# Altium integrated library ST Microcontroller 8-Bit.IntLib: 1326 symbols (part 38 of 45)
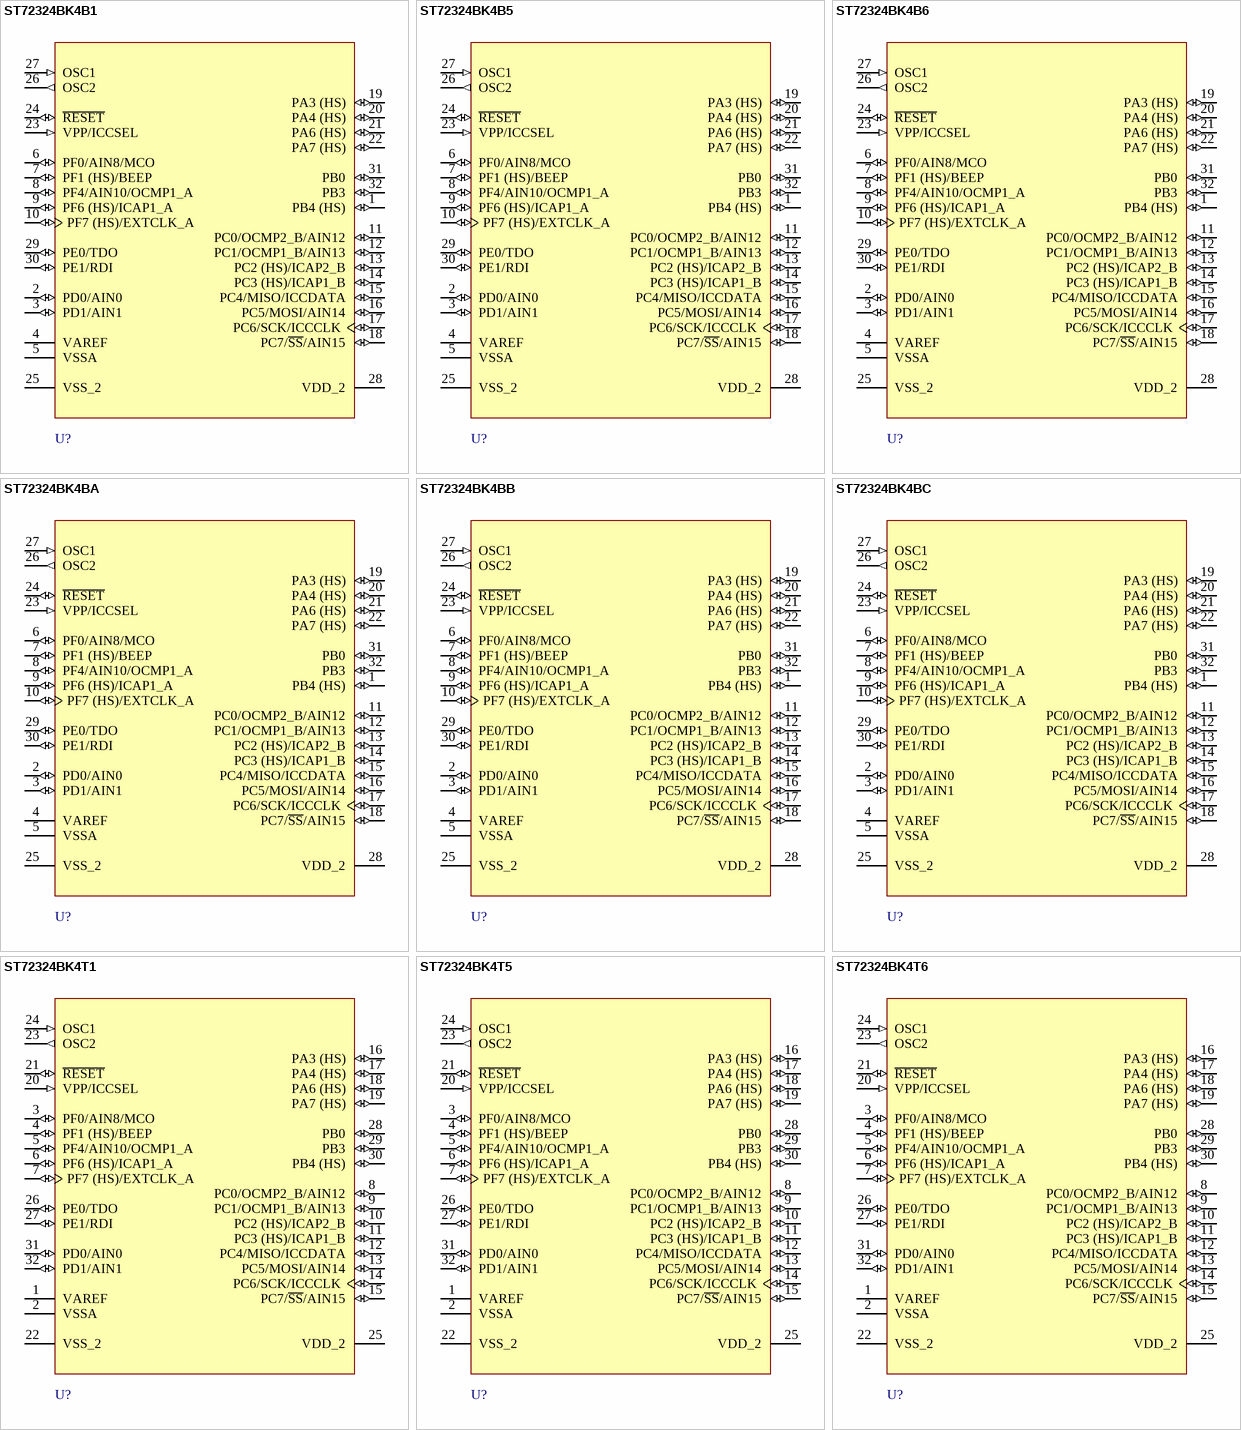
[diagram p204: symbols ST72324BK4B1 to ST72324BK4T6]

## ST72324BK4B6
designator U?
8-Bit MCU with 16k ROM, 512b RAM, 10-Bit ADC, Four Timers, SPI and SCI Interface, 32-Pin PDIP, Standard; Note: Pins 1, 6, 7, 19, 31 and 32 are External Interrupt (EI) pins.; Published: 26-May-2004; LatestRevisionDate: 06-Jun-2005; LatestRevisionNote: Stylized 3D Model Added.; DatasheetVersion: rev1.1, Oct-2003; PackageVersion: rev1.7, Oct-2001; PackageReference: PSDIP32; Publisher: Altium Limited; PackageDescription: DIP, Plastic Shrink; 32 Leads; Row Spacing 10.16 mm; Pitch 1.78 mm; ComponentLink1Description: Manufacturer Link; ComponentLink1URL: http://www.st.com/; ComponentLink2Description: Datasheet; ComponentLink2URL: http://www.st.com/stonline/products/literature/ds/8336/st72324b.pdf
footprint PSDIP32 (DIP, Plastic Shrink; 32 Leads; Row Spacing 10.16 mm; Pitch 1.78 mm)
3D model PSDIP32 (DIP, Plastic Shrink; 32 Leads; Row Spacing 10.16 mm; Pitch 1.78 mm)
pins: 1 PB4 (HS) (io), 2 PD0/AIN0 (io), 3 PD1/AIN1 (io), 4 VAREF (power), 5 VSSA (power), 6 PF0/AIN8/MCO (io), 7 PF1 (HS)/BEEP (io), 8 PF4/AIN10/OCMP1_A (io), 9 PF6 (HS)/ICAP1_A (io), 10 PF7 (HS)/EXTCLK_A (io), 11 PC0/OCMP2_B/AIN12 (io), 12 PC1/OCMP1_B/AIN13 (io), 13 PC2 (HS)/ICAP2_B (io), 14 PC3 (HS)/ICAP1_B (io), 15 PC4/MISO/ICCDATA (io), 16 PC5/MOSI/AIN14 (io), 17 PC6/SCK/ICCCLK (io), 18 PC7/~{SS}/AIN15 (io), 19 PA3 (HS) (io), 20 PA4 (HS) (io), 21 PA6 (HS) (io), 22 PA7 (HS) (io), 23 VPP/ICCSEL (in), 24 ~{RESET} (io), 25 VSS_2 (power), 26 OSC2 (out), 27 OSC1 (in), 28 VDD_2 (power), 29 PE0/TDO (io), 30 PE1/RDI (io), 31 PB0 (io), 32 PB3 (io)

## ST72324BK4BA
designator U?
8-Bit MCU with 16k ROM, 512b RAM, 10-Bit ADC, Four Timers, SPI and SCI Interface, 32-Pin PDIP, Automotive; Note: Pins 1, 6, 7, 19, 31 and 32 are External Interrupt (EI) pins.; Published: 26-May-2004; LatestRevisionDate: 06-Jun-2005; LatestRevisionNote: Stylized 3D Model Added.; DatasheetVersion: rev1.1, Oct-2003; PackageVersion: rev1.7, Oct-2001; PackageReference: PSDIP32; Publisher: Altium Limited; PackageDescription: DIP, Plastic Shrink; 32 Leads; Row Spacing 10.16 mm; Pitch 1.78 mm; ComponentLink1Description: Manufacturer Link; ComponentLink1URL: http://www.st.com/; ComponentLink2Description: Datasheet; ComponentLink2URL: http://www.st.com/stonline/products/literature/ds/8336/st72324b.pdf
footprint PSDIP32 (DIP, Plastic Shrink; 32 Leads; Row Spacing 10.16 mm; Pitch 1.78 mm)
3D model PSDIP32 (DIP, Plastic Shrink; 32 Leads; Row Spacing 10.16 mm; Pitch 1.78 mm)
pins: 1 PB4 (HS) (io), 2 PD0/AIN0 (io), 3 PD1/AIN1 (io), 4 VAREF (power), 5 VSSA (power), 6 PF0/AIN8/MCO (io), 7 PF1 (HS)/BEEP (io), 8 PF4/AIN10/OCMP1_A (io), 9 PF6 (HS)/ICAP1_A (io), 10 PF7 (HS)/EXTCLK_A (io), 11 PC0/OCMP2_B/AIN12 (io), 12 PC1/OCMP1_B/AIN13 (io), 13 PC2 (HS)/ICAP2_B (io), 14 PC3 (HS)/ICAP1_B (io), 15 PC4/MISO/ICCDATA (io), 16 PC5/MOSI/AIN14 (io), 17 PC6/SCK/ICCCLK (io), 18 PC7/~{SS}/AIN15 (io), 19 PA3 (HS) (io), 20 PA4 (HS) (io), 21 PA6 (HS) (io), 22 PA7 (HS) (io), 23 VPP/ICCSEL (in), 24 ~{RESET} (io), 25 VSS_2 (power), 26 OSC2 (out), 27 OSC1 (in), 28 VDD_2 (power), 29 PE0/TDO (io), 30 PE1/RDI (io), 31 PB0 (io), 32 PB3 (io)

## ST72324BK4BB
designator U?
8-Bit MCU with 16k ROM, 512b RAM, 10-Bit ADC, Four Timers, SPI and SCI Interface, 32-Pin PDIP, Automotive; Note: Pins 1, 6, 7, 19, 31 and 32 are External Interrupt (EI) pins.; Published: 26-May-2004; LatestRevisionDate: 06-Jun-2005; LatestRevisionNote: Stylized 3D Model Added.; DatasheetVersion: rev1.1, Oct-2003; PackageVersion: rev1.7, Oct-2001; PackageReference: PSDIP32; Publisher: Altium Limited; PackageDescription: DIP, Plastic Shrink; 32 Leads; Row Spacing 10.16 mm; Pitch 1.78 mm; ComponentLink1Description: Manufacturer Link; ComponentLink1URL: http://www.st.com/; ComponentLink2Description: Datasheet; ComponentLink2URL: http://www.st.com/stonline/products/literature/ds/8336/st72324b.pdf
footprint PSDIP32 (DIP, Plastic Shrink; 32 Leads; Row Spacing 10.16 mm; Pitch 1.78 mm)
3D model PSDIP32 (DIP, Plastic Shrink; 32 Leads; Row Spacing 10.16 mm; Pitch 1.78 mm)
pins: 1 PB4 (HS) (io), 2 PD0/AIN0 (io), 3 PD1/AIN1 (io), 4 VAREF (power), 5 VSSA (power), 6 PF0/AIN8/MCO (io), 7 PF1 (HS)/BEEP (io), 8 PF4/AIN10/OCMP1_A (io), 9 PF6 (HS)/ICAP1_A (io), 10 PF7 (HS)/EXTCLK_A (io), 11 PC0/OCMP2_B/AIN12 (io), 12 PC1/OCMP1_B/AIN13 (io), 13 PC2 (HS)/ICAP2_B (io), 14 PC3 (HS)/ICAP1_B (io), 15 PC4/MISO/ICCDATA (io), 16 PC5/MOSI/AIN14 (io), 17 PC6/SCK/ICCCLK (io), 18 PC7/~{SS}/AIN15 (io), 19 PA3 (HS) (io), 20 PA4 (HS) (io), 21 PA6 (HS) (io), 22 PA7 (HS) (io), 23 VPP/ICCSEL (in), 24 ~{RESET} (io), 25 VSS_2 (power), 26 OSC2 (out), 27 OSC1 (in), 28 VDD_2 (power), 29 PE0/TDO (io), 30 PE1/RDI (io), 31 PB0 (io), 32 PB3 (io)

## ST72324BK4BC
designator U?
8-Bit MCU with 16k ROM, 512b RAM, 10-Bit ADC, Four Timers, SPI and SCI Interface, 32-Pin PDIP, Automotive; Note: Pins 1, 6, 7, 19, 31 and 32 are External Interrupt (EI) pins.; Published: 26-May-2004; LatestRevisionDate: 06-Jun-2005; LatestRevisionNote: Stylized 3D Model Added.; DatasheetVersion: rev1.1, Oct-2003; PackageVersion: rev1.7, Oct-2001; PackageReference: PSDIP32; Publisher: Altium Limited; PackageDescription: DIP, Plastic Shrink; 32 Leads; Row Spacing 10.16 mm; Pitch 1.78 mm; ComponentLink1Description: Manufacturer Link; ComponentLink1URL: http://www.st.com/; ComponentLink2Description: Datasheet; ComponentLink2URL: http://www.st.com/stonline/products/literature/ds/8336/st72324b.pdf
footprint PSDIP32 (DIP, Plastic Shrink; 32 Leads; Row Spacing 10.16 mm; Pitch 1.78 mm)
3D model PSDIP32 (DIP, Plastic Shrink; 32 Leads; Row Spacing 10.16 mm; Pitch 1.78 mm)
pins: 1 PB4 (HS) (io), 2 PD0/AIN0 (io), 3 PD1/AIN1 (io), 4 VAREF (power), 5 VSSA (power), 6 PF0/AIN8/MCO (io), 7 PF1 (HS)/BEEP (io), 8 PF4/AIN10/OCMP1_A (io), 9 PF6 (HS)/ICAP1_A (io), 10 PF7 (HS)/EXTCLK_A (io), 11 PC0/OCMP2_B/AIN12 (io), 12 PC1/OCMP1_B/AIN13 (io), 13 PC2 (HS)/ICAP2_B (io), 14 PC3 (HS)/ICAP1_B (io), 15 PC4/MISO/ICCDATA (io), 16 PC5/MOSI/AIN14 (io), 17 PC6/SCK/ICCCLK (io), 18 PC7/~{SS}/AIN15 (io), 19 PA3 (HS) (io), 20 PA4 (HS) (io), 21 PA6 (HS) (io), 22 PA7 (HS) (io), 23 VPP/ICCSEL (in), 24 ~{RESET} (io), 25 VSS_2 (power), 26 OSC2 (out), 27 OSC1 (in), 28 VDD_2 (power), 29 PE0/TDO (io), 30 PE1/RDI (io), 31 PB0 (io), 32 PB3 (io)

## ST72324BK4T1
designator U?
8-Bit MCU with 16k ROM, 512b RAM, 10-Bit ADC, Four Timers, SPI and SCI Interface, 32-Pin TQFP, Standard; Note: Pins 3, 4, 16 and 28-30 are External Interrupt (EI) pins.; Published: 26-May-2004; LatestRevisionDate: 13-Apr-2006; LatestRevisionNote: IPC-7351 Footprint Added.; DatasheetVersion: rev1.1, Oct-2003; PackageVersion: Oct-1997; PackageReference: TQFP32; Publisher: Altium Limited; PackageDescription: 32-Pin Thin Quad Flat Pack 0.8 mm Pitch; ComponentLink1Description: Manufacturer Link; ComponentLink1URL: http://www.st.com/; ComponentLink2Description: Datasheet; ComponentLink2URL: http://www.st.com/stonline/products/literature/ds/8336/st72324b.pdf
footprint TQFP32_N (Thin QFP, 32-Leads, Body 7x7mm, Pitch 0.8mm, IPC Medium Density)
footprint TQFP32_L (Thin QFP, 32-Leads, Body 7x7mm, Pitch 0.8mm, IPC High Density)
footprint TQFP32_M (Thin QFP, 32-Leads, Body 7x7mm, Pitch 0.8mm, IPC Low Density)
3D model ST72324B-TQFP32 (32-Pin Thin Quad Flat Pack 0.8 mm Pitch)
pins: 1 VAREF (power), 2 VSSA (power), 3 PF0/AIN8/MCO (io), 4 PF1 (HS)/BEEP (io), 5 PF4/AIN10/OCMP1_A (io), 6 PF6 (HS)/ICAP1_A (io), 7 PF7 (HS)/EXTCLK_A (io), 8 PC0/OCMP2_B/AIN12 (io), 9 PC1/OCMP1_B/AIN13 (io), 10 PC2 (HS)/ICAP2_B (io), 11 PC3 (HS)/ICAP1_B (io), 12 PC4/MISO/ICCDATA (io), 13 PC5/MOSI/AIN14 (io), 14 PC6/SCK/ICCCLK (io), 15 PC7/~{SS}/AIN15 (io), 16 PA3 (HS) (io), 17 PA4 (HS) (io), 18 PA6 (HS) (io), 19 PA7 (HS) (io), 20 VPP/ICCSEL (in), 21 ~{RESET} (io), 22 VSS_2 (power), 23 OSC2 (out), 24 OSC1 (in), 25 VDD_2 (power), 26 PE0/TDO (io), 27 PE1/RDI (io), 28 PB0 (io), 29 PB3 (io), 30 PB4 (HS) (io), 31 PD0/AIN0 (io), 32 PD1/AIN1 (io)

## ST72324BK4T5
designator U?
8-Bit MCU with 16k ROM, 512b RAM, 10-Bit ADC, Four Timers, SPI and SCI Interface, 32-Pin TQFP, Standard; Note: Pins 3, 4, 16 and 28-30 are External Interrupt (EI) pins.; Published: 26-May-2004; LatestRevisionDate: 13-Apr-2006; LatestRevisionNote: IPC-7351 Footprint Added.; DatasheetVersion: rev1.1, Oct-2003; PackageVersion: Oct-1997; PackageReference: TQFP32; Publisher: Altium Limited; PackageDescription: 32-Pin Thin Quad Flat Pack 0.8 mm Pitch; ComponentLink1Description: Manufacturer Link; ComponentLink1URL: http://www.st.com/; ComponentLink2Description: Datasheet; ComponentLink2URL: http://www.st.com/stonline/products/literature/ds/8336/st72324b.pdf
footprint TQFP32_N (Thin QFP, 32-Leads, Body 7x7mm, Pitch 0.8mm, IPC Medium Density)
footprint TQFP32_L (Thin QFP, 32-Leads, Body 7x7mm, Pitch 0.8mm, IPC High Density)
footprint TQFP32_M (Thin QFP, 32-Leads, Body 7x7mm, Pitch 0.8mm, IPC Low Density)
3D model ST72324B-TQFP32 (32-Pin Thin Quad Flat Pack 0.8 mm Pitch)
pins: 1 VAREF (power), 2 VSSA (power), 3 PF0/AIN8/MCO (io), 4 PF1 (HS)/BEEP (io), 5 PF4/AIN10/OCMP1_A (io), 6 PF6 (HS)/ICAP1_A (io), 7 PF7 (HS)/EXTCLK_A (io), 8 PC0/OCMP2_B/AIN12 (io), 9 PC1/OCMP1_B/AIN13 (io), 10 PC2 (HS)/ICAP2_B (io), 11 PC3 (HS)/ICAP1_B (io), 12 PC4/MISO/ICCDATA (io), 13 PC5/MOSI/AIN14 (io), 14 PC6/SCK/ICCCLK (io), 15 PC7/~{SS}/AIN15 (io), 16 PA3 (HS) (io), 17 PA4 (HS) (io), 18 PA6 (HS) (io), 19 PA7 (HS) (io), 20 VPP/ICCSEL (in), 21 ~{RESET} (io), 22 VSS_2 (power), 23 OSC2 (out), 24 OSC1 (in), 25 VDD_2 (power), 26 PE0/TDO (io), 27 PE1/RDI (io), 28 PB0 (io), 29 PB3 (io), 30 PB4 (HS) (io), 31 PD0/AIN0 (io), 32 PD1/AIN1 (io)

## ST72324BK4T6
designator U?
8-Bit MCU with 16k ROM, 512b RAM, 10-Bit ADC, Four Timers, SPI and SCI Interface, 32-Pin TQFP, Standard; Note: Pins 3, 4, 16 and 28-30 are External Interrupt (EI) pins.; Published: 26-May-2004; LatestRevisionDate: 13-Apr-2006; LatestRevisionNote: IPC-7351 Footprint Added.; DatasheetVersion: rev1.1, Oct-2003; PackageVersion: Oct-1997; PackageReference: TQFP32; Publisher: Altium Limited; PackageDescription: 32-Pin Thin Quad Flat Pack 0.8 mm Pitch; ComponentLink1Description: Manufacturer Link; ComponentLink1URL: http://www.st.com/; ComponentLink2Description: Datasheet; ComponentLink2URL: http://www.st.com/stonline/products/literature/ds/8336/st72324b.pdf
footprint TQFP32_N (Thin QFP, 32-Leads, Body 7x7mm, Pitch 0.8mm, IPC Medium Density)
footprint TQFP32_L (Thin QFP, 32-Leads, Body 7x7mm, Pitch 0.8mm, IPC High Density)
footprint TQFP32_M (Thin QFP, 32-Leads, Body 7x7mm, Pitch 0.8mm, IPC Low Density)
3D model ST72324B-TQFP32 (32-Pin Thin Quad Flat Pack 0.8 mm Pitch)
pins: 1 VAREF (power), 2 VSSA (power), 3 PF0/AIN8/MCO (io), 4 PF1 (HS)/BEEP (io), 5 PF4/AIN10/OCMP1_A (io), 6 PF6 (HS)/ICAP1_A (io), 7 PF7 (HS)/EXTCLK_A (io), 8 PC0/OCMP2_B/AIN12 (io), 9 PC1/OCMP1_B/AIN13 (io), 10 PC2 (HS)/ICAP2_B (io), 11 PC3 (HS)/ICAP1_B (io), 12 PC4/MISO/ICCDATA (io), 13 PC5/MOSI/AIN14 (io), 14 PC6/SCK/ICCCLK (io), 15 PC7/~{SS}/AIN15 (io), 16 PA3 (HS) (io), 17 PA4 (HS) (io), 18 PA6 (HS) (io), 19 PA7 (HS) (io), 20 VPP/ICCSEL (in), 21 ~{RESET} (io), 22 VSS_2 (power), 23 OSC2 (out), 24 OSC1 (in), 25 VDD_2 (power), 26 PE0/TDO (io), 27 PE1/RDI (io), 28 PB0 (io), 29 PB3 (io), 30 PB4 (HS) (io), 31 PD0/AIN0 (io), 32 PD1/AIN1 (io)

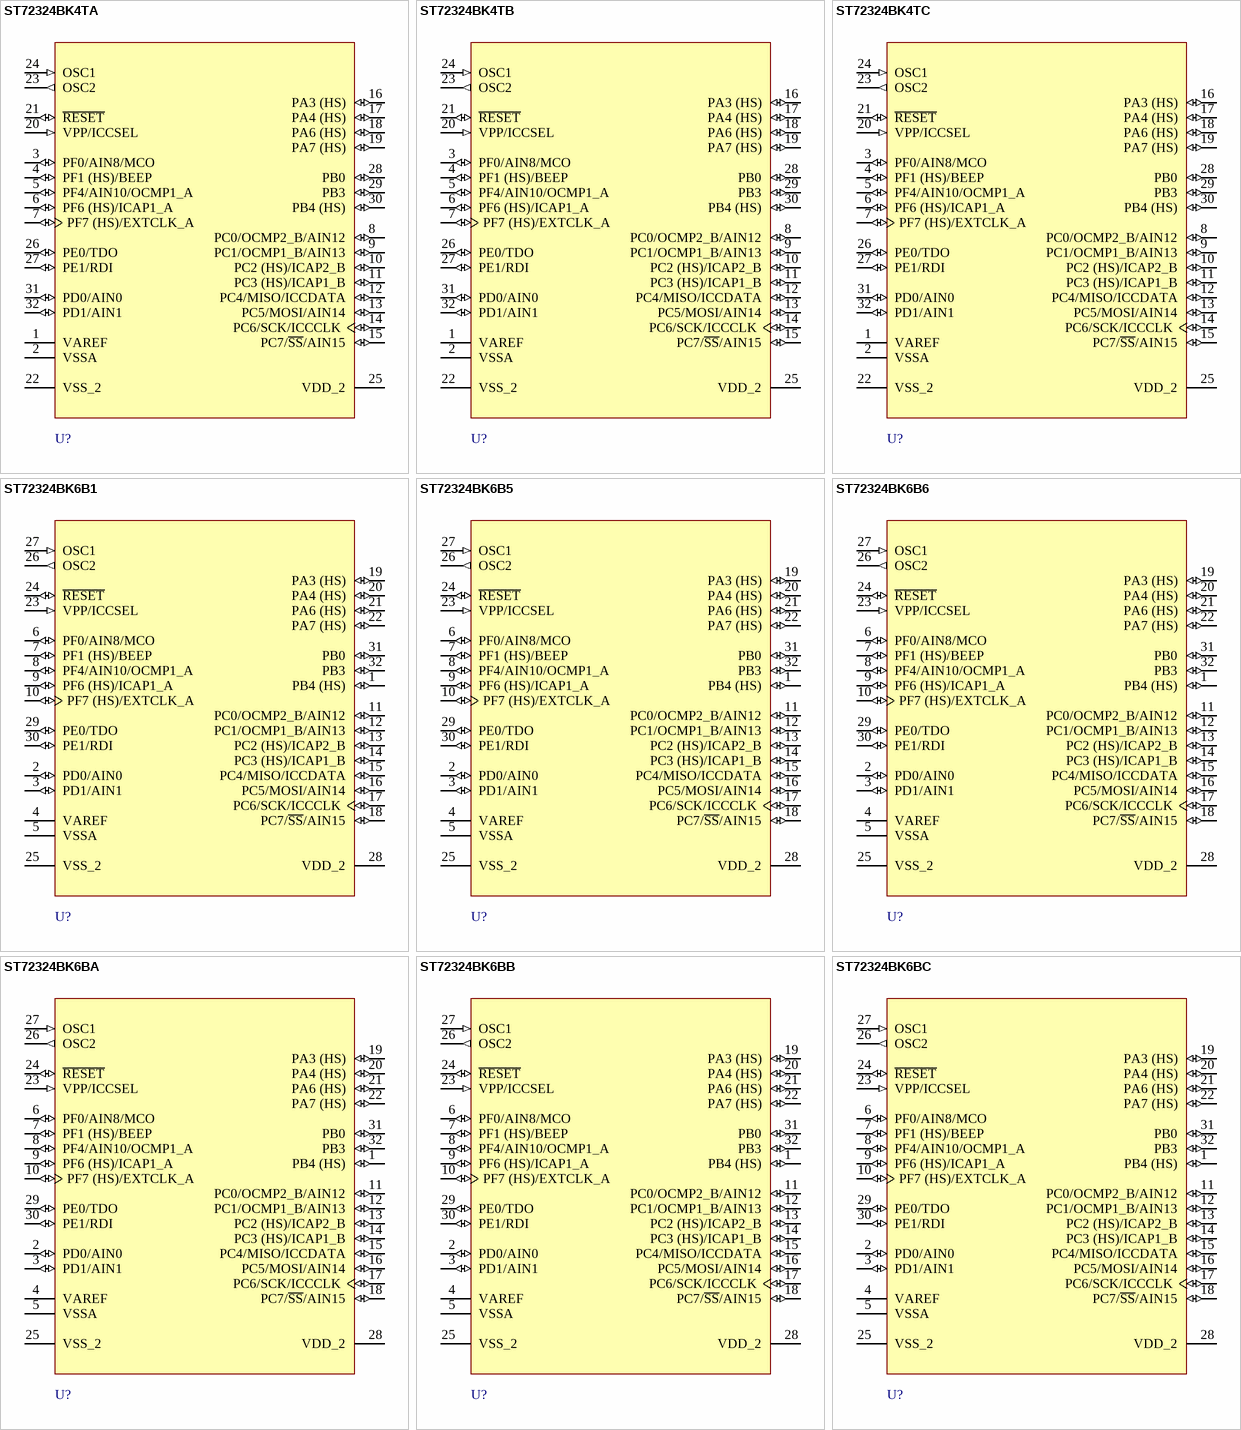
[diagram p134: symbols ST72324BK4TA to ST72324BK6BC]

## ST72324BK4TA
designator U?
8-Bit MCU with 16k ROM, 512b RAM, 10-Bit ADC, Four Timers, SPI and SCI Interface, 32-Pin TQFP, Automotive; Note: Pins 3, 4, 16 and 28-30 are External Interrupt (EI) pins.; Published: 26-May-2004; LatestRevisionDate: 13-Apr-2006; LatestRevisionNote: IPC-7351 Footprint Added.; DatasheetVersion: rev1.1, Oct-2003; PackageVersion: Oct-1997; PackageReference: TQFP32; Publisher: Altium Limited; PackageDescription: 32-Pin Thin Quad Flat Pack 0.8 mm Pitch; ComponentLink1Description: Manufacturer Link; ComponentLink1URL: http://www.st.com/; ComponentLink2Description: Datasheet; ComponentLink2URL: http://www.st.com/stonline/products/literature/ds/8336/st72324b.pdf
footprint TQFP32_N (Thin QFP, 32-Leads, Body 7x7mm, Pitch 0.8mm, IPC Medium Density)
footprint TQFP32_L (Thin QFP, 32-Leads, Body 7x7mm, Pitch 0.8mm, IPC High Density)
footprint TQFP32_M (Thin QFP, 32-Leads, Body 7x7mm, Pitch 0.8mm, IPC Low Density)
3D model ST72324B-TQFP32 (32-Pin Thin Quad Flat Pack 0.8 mm Pitch)
pins: 1 VAREF (power), 2 VSSA (power), 3 PF0/AIN8/MCO (io), 4 PF1 (HS)/BEEP (io), 5 PF4/AIN10/OCMP1_A (io), 6 PF6 (HS)/ICAP1_A (io), 7 PF7 (HS)/EXTCLK_A (io), 8 PC0/OCMP2_B/AIN12 (io), 9 PC1/OCMP1_B/AIN13 (io), 10 PC2 (HS)/ICAP2_B (io), 11 PC3 (HS)/ICAP1_B (io), 12 PC4/MISO/ICCDATA (io), 13 PC5/MOSI/AIN14 (io), 14 PC6/SCK/ICCCLK (io), 15 PC7/~{SS}/AIN15 (io), 16 PA3 (HS) (io), 17 PA4 (HS) (io), 18 PA6 (HS) (io), 19 PA7 (HS) (io), 20 VPP/ICCSEL (in), 21 ~{RESET} (io), 22 VSS_2 (power), 23 OSC2 (out), 24 OSC1 (in), 25 VDD_2 (power), 26 PE0/TDO (io), 27 PE1/RDI (io), 28 PB0 (io), 29 PB3 (io), 30 PB4 (HS) (io), 31 PD0/AIN0 (io), 32 PD1/AIN1 (io)

## ST72324BK4TB
designator U?
8-Bit MCU with 16k ROM, 512b RAM, 10-Bit ADC, Four Timers, SPI and SCI Interface, 32-Pin TQFP, Automotive; Note: Pins 3, 4, 16 and 28-30 are External Interrupt (EI) pins.; Published: 26-May-2004; LatestRevisionDate: 13-Apr-2006; LatestRevisionNote: IPC-7351 Footprint Added.; DatasheetVersion: rev1.1, Oct-2003; PackageVersion: Oct-1997; PackageReference: TQFP32; Publisher: Altium Limited; PackageDescription: 32-Pin Thin Quad Flat Pack 0.8 mm Pitch; ComponentLink1Description: Manufacturer Link; ComponentLink1URL: http://www.st.com/; ComponentLink2Description: Datasheet; ComponentLink2URL: http://www.st.com/stonline/products/literature/ds/8336/st72324b.pdf
footprint TQFP32_N (Thin QFP, 32-Leads, Body 7x7mm, Pitch 0.8mm, IPC Medium Density)
footprint TQFP32_L (Thin QFP, 32-Leads, Body 7x7mm, Pitch 0.8mm, IPC High Density)
footprint TQFP32_M (Thin QFP, 32-Leads, Body 7x7mm, Pitch 0.8mm, IPC Low Density)
3D model ST72324B-TQFP32 (32-Pin Thin Quad Flat Pack 0.8 mm Pitch)
pins: 1 VAREF (power), 2 VSSA (power), 3 PF0/AIN8/MCO (io), 4 PF1 (HS)/BEEP (io), 5 PF4/AIN10/OCMP1_A (io), 6 PF6 (HS)/ICAP1_A (io), 7 PF7 (HS)/EXTCLK_A (io), 8 PC0/OCMP2_B/AIN12 (io), 9 PC1/OCMP1_B/AIN13 (io), 10 PC2 (HS)/ICAP2_B (io), 11 PC3 (HS)/ICAP1_B (io), 12 PC4/MISO/ICCDATA (io), 13 PC5/MOSI/AIN14 (io), 14 PC6/SCK/ICCCLK (io), 15 PC7/~{SS}/AIN15 (io), 16 PA3 (HS) (io), 17 PA4 (HS) (io), 18 PA6 (HS) (io), 19 PA7 (HS) (io), 20 VPP/ICCSEL (in), 21 ~{RESET} (io), 22 VSS_2 (power), 23 OSC2 (out), 24 OSC1 (in), 25 VDD_2 (power), 26 PE0/TDO (io), 27 PE1/RDI (io), 28 PB0 (io), 29 PB3 (io), 30 PB4 (HS) (io), 31 PD0/AIN0 (io), 32 PD1/AIN1 (io)

## ST72324BK4TC
designator U?
8-Bit MCU with 16k ROM, 512b RAM, 10-Bit ADC, Four Timers, SPI and SCI Interface, 32-Pin TQFP, Automotive; Note: Pins 3, 4, 16 and 28-30 are External Interrupt (EI) pins.; Published: 26-May-2004; LatestRevisionDate: 13-Apr-2006; LatestRevisionNote: IPC-7351 Footprint Added.; DatasheetVersion: rev1.1, Oct-2003; PackageVersion: Oct-1997; PackageReference: TQFP32; Publisher: Altium Limited; PackageDescription: 32-Pin Thin Quad Flat Pack 0.8 mm Pitch; ComponentLink1Description: Manufacturer Link; ComponentLink1URL: http://www.st.com/; ComponentLink2Description: Datasheet; ComponentLink2URL: http://www.st.com/stonline/products/literature/ds/8336/st72324b.pdf
footprint TQFP32_N (Thin QFP, 32-Leads, Body 7x7mm, Pitch 0.8mm, IPC Medium Density)
footprint TQFP32_L (Thin QFP, 32-Leads, Body 7x7mm, Pitch 0.8mm, IPC High Density)
footprint TQFP32_M (Thin QFP, 32-Leads, Body 7x7mm, Pitch 0.8mm, IPC Low Density)
3D model ST72324B-TQFP32 (32-Pin Thin Quad Flat Pack 0.8 mm Pitch)
pins: 1 VAREF (power), 2 VSSA (power), 3 PF0/AIN8/MCO (io), 4 PF1 (HS)/BEEP (io), 5 PF4/AIN10/OCMP1_A (io), 6 PF6 (HS)/ICAP1_A (io), 7 PF7 (HS)/EXTCLK_A (io), 8 PC0/OCMP2_B/AIN12 (io), 9 PC1/OCMP1_B/AIN13 (io), 10 PC2 (HS)/ICAP2_B (io), 11 PC3 (HS)/ICAP1_B (io), 12 PC4/MISO/ICCDATA (io), 13 PC5/MOSI/AIN14 (io), 14 PC6/SCK/ICCCLK (io), 15 PC7/~{SS}/AIN15 (io), 16 PA3 (HS) (io), 17 PA4 (HS) (io), 18 PA6 (HS) (io), 19 PA7 (HS) (io), 20 VPP/ICCSEL (in), 21 ~{RESET} (io), 22 VSS_2 (power), 23 OSC2 (out), 24 OSC1 (in), 25 VDD_2 (power), 26 PE0/TDO (io), 27 PE1/RDI (io), 28 PB0 (io), 29 PB3 (io), 30 PB4 (HS) (io), 31 PD0/AIN0 (io), 32 PD1/AIN1 (io)

## ST72324BK6B1
designator U?
8-Bit MCU with 32k ROM, 1024b RAM, 10-Bit ADC, Four Timers, SPI and SCI Interface, 32-Pin PDIP, Standard; Note: Pins 1, 6, 7, 19, 31 and 32 are External Interrupt (EI) pins.; Published: 26-May-2004; LatestRevisionDate: 06-Jun-2005; LatestRevisionNote: Stylized 3D Model Added.; DatasheetVersion: rev1.1, Oct-2003; PackageVersion: rev1.7, Oct-2001; PackageReference: PSDIP32; Publisher: Altium Limited; PackageDescription: DIP, Plastic Shrink; 32 Leads; Row Spacing 10.16 mm; Pitch 1.78 mm; ComponentLink1Description: Manufacturer Link; ComponentLink1URL: http://www.st.com/; ComponentLink2Description: Datasheet; ComponentLink2URL: http://www.st.com/stonline/products/literature/ds/8336/st72324b.pdf
footprint PSDIP32 (DIP, Plastic Shrink; 32 Leads; Row Spacing 10.16 mm; Pitch 1.78 mm)
3D model PSDIP32 (DIP, Plastic Shrink; 32 Leads; Row Spacing 10.16 mm; Pitch 1.78 mm)
pins: 1 PB4 (HS) (io), 2 PD0/AIN0 (io), 3 PD1/AIN1 (io), 4 VAREF (power), 5 VSSA (power), 6 PF0/AIN8/MCO (io), 7 PF1 (HS)/BEEP (io), 8 PF4/AIN10/OCMP1_A (io), 9 PF6 (HS)/ICAP1_A (io), 10 PF7 (HS)/EXTCLK_A (io), 11 PC0/OCMP2_B/AIN12 (io), 12 PC1/OCMP1_B/AIN13 (io), 13 PC2 (HS)/ICAP2_B (io), 14 PC3 (HS)/ICAP1_B (io), 15 PC4/MISO/ICCDATA (io), 16 PC5/MOSI/AIN14 (io), 17 PC6/SCK/ICCCLK (io), 18 PC7/~{SS}/AIN15 (io), 19 PA3 (HS) (io), 20 PA4 (HS) (io), 21 PA6 (HS) (io), 22 PA7 (HS) (io), 23 VPP/ICCSEL (in), 24 ~{RESET} (io), 25 VSS_2 (power), 26 OSC2 (out), 27 OSC1 (in), 28 VDD_2 (power), 29 PE0/TDO (io), 30 PE1/RDI (io), 31 PB0 (io), 32 PB3 (io)

## ST72324BK6B5
designator U?
8-Bit MCU with 32k ROM, 1024b RAM, 10-Bit ADC, Four Timers, SPI and SCI Interface, 32-Pin PDIP, Standard; Note: Pins 1, 6, 7, 19, 31 and 32 are External Interrupt (EI) pins.; Published: 26-May-2004; LatestRevisionDate: 06-Jun-2005; LatestRevisionNote: Stylized 3D Model Added.; DatasheetVersion: rev1.1, Oct-2003; PackageVersion: rev1.7, Oct-2001; PackageReference: PSDIP32; Publisher: Altium Limited; PackageDescription: DIP, Plastic Shrink; 32 Leads; Row Spacing 10.16 mm; Pitch 1.78 mm; ComponentLink1Description: Manufacturer Link; ComponentLink1URL: http://www.st.com/; ComponentLink2Description: Datasheet; ComponentLink2URL: http://www.st.com/stonline/products/literature/ds/8336/st72324b.pdf
footprint PSDIP32 (DIP, Plastic Shrink; 32 Leads; Row Spacing 10.16 mm; Pitch 1.78 mm)
3D model PSDIP32 (DIP, Plastic Shrink; 32 Leads; Row Spacing 10.16 mm; Pitch 1.78 mm)
pins: 1 PB4 (HS) (io), 2 PD0/AIN0 (io), 3 PD1/AIN1 (io), 4 VAREF (power), 5 VSSA (power), 6 PF0/AIN8/MCO (io), 7 PF1 (HS)/BEEP (io), 8 PF4/AIN10/OCMP1_A (io), 9 PF6 (HS)/ICAP1_A (io), 10 PF7 (HS)/EXTCLK_A (io), 11 PC0/OCMP2_B/AIN12 (io), 12 PC1/OCMP1_B/AIN13 (io), 13 PC2 (HS)/ICAP2_B (io), 14 PC3 (HS)/ICAP1_B (io), 15 PC4/MISO/ICCDATA (io), 16 PC5/MOSI/AIN14 (io), 17 PC6/SCK/ICCCLK (io), 18 PC7/~{SS}/AIN15 (io), 19 PA3 (HS) (io), 20 PA4 (HS) (io), 21 PA6 (HS) (io), 22 PA7 (HS) (io), 23 VPP/ICCSEL (in), 24 ~{RESET} (io), 25 VSS_2 (power), 26 OSC2 (out), 27 OSC1 (in), 28 VDD_2 (power), 29 PE0/TDO (io), 30 PE1/RDI (io), 31 PB0 (io), 32 PB3 (io)

## ST72324BK6B6
designator U?
8-Bit MCU with 32k ROM, 1024b RAM, 10-Bit ADC, Four Timers, SPI and SCI Interface, 32-Pin PDIP, Standard; Note: Pins 1, 6, 7, 19, 31 and 32 are External Interrupt (EI) pins.; Published: 26-May-2004; LatestRevisionDate: 06-Jun-2005; LatestRevisionNote: Stylized 3D Model Added.; DatasheetVersion: rev1.1, Oct-2003; PackageVersion: rev1.7, Oct-2001; PackageReference: PSDIP32; Publisher: Altium Limited; PackageDescription: DIP, Plastic Shrink; 32 Leads; Row Spacing 10.16 mm; Pitch 1.78 mm; ComponentLink1Description: Manufacturer Link; ComponentLink1URL: http://www.st.com/; ComponentLink2Description: Datasheet; ComponentLink2URL: http://www.st.com/stonline/products/literature/ds/8336/st72324b.pdf
footprint PSDIP32 (DIP, Plastic Shrink; 32 Leads; Row Spacing 10.16 mm; Pitch 1.78 mm)
3D model PSDIP32 (DIP, Plastic Shrink; 32 Leads; Row Spacing 10.16 mm; Pitch 1.78 mm)
pins: 1 PB4 (HS) (io), 2 PD0/AIN0 (io), 3 PD1/AIN1 (io), 4 VAREF (power), 5 VSSA (power), 6 PF0/AIN8/MCO (io), 7 PF1 (HS)/BEEP (io), 8 PF4/AIN10/OCMP1_A (io), 9 PF6 (HS)/ICAP1_A (io), 10 PF7 (HS)/EXTCLK_A (io), 11 PC0/OCMP2_B/AIN12 (io), 12 PC1/OCMP1_B/AIN13 (io), 13 PC2 (HS)/ICAP2_B (io), 14 PC3 (HS)/ICAP1_B (io), 15 PC4/MISO/ICCDATA (io), 16 PC5/MOSI/AIN14 (io), 17 PC6/SCK/ICCCLK (io), 18 PC7/~{SS}/AIN15 (io), 19 PA3 (HS) (io), 20 PA4 (HS) (io), 21 PA6 (HS) (io), 22 PA7 (HS) (io), 23 VPP/ICCSEL (in), 24 ~{RESET} (io), 25 VSS_2 (power), 26 OSC2 (out), 27 OSC1 (in), 28 VDD_2 (power), 29 PE0/TDO (io), 30 PE1/RDI (io), 31 PB0 (io), 32 PB3 (io)

## ST72324BK6BA
designator U?
8-Bit MCU with 32k ROM, 1024b RAM, 10-Bit ADC, Four Timers, SPI and SCI Interface, 32-Pin PDIP, Automotive; Note: Pins 1, 6, 7, 19, 31 and 32 are External Interrupt (EI) pins.; Published: 26-May-2004; LatestRevisionDate: 06-Jun-2005; LatestRevisionNote: Stylized 3D Model Added.; DatasheetVersion: rev1.1, Oct-2003; PackageVersion: rev1.7, Oct-2001; PackageReference: PSDIP32; Publisher: Altium Limited; PackageDescription: DIP, Plastic Shrink; 32 Leads; Row Spacing 10.16 mm; Pitch 1.78 mm; ComponentLink1Description: Manufacturer Link; ComponentLink1URL: http://www.st.com/; ComponentLink2Description: Datasheet; ComponentLink2URL: http://www.st.com/stonline/products/literature/ds/8336/st72324b.pdf
footprint PSDIP32 (DIP, Plastic Shrink; 32 Leads; Row Spacing 10.16 mm; Pitch 1.78 mm)
3D model PSDIP32 (DIP, Plastic Shrink; 32 Leads; Row Spacing 10.16 mm; Pitch 1.78 mm)
pins: 1 PB4 (HS) (io), 2 PD0/AIN0 (io), 3 PD1/AIN1 (io), 4 VAREF (power), 5 VSSA (power), 6 PF0/AIN8/MCO (io), 7 PF1 (HS)/BEEP (io), 8 PF4/AIN10/OCMP1_A (io), 9 PF6 (HS)/ICAP1_A (io), 10 PF7 (HS)/EXTCLK_A (io), 11 PC0/OCMP2_B/AIN12 (io), 12 PC1/OCMP1_B/AIN13 (io), 13 PC2 (HS)/ICAP2_B (io), 14 PC3 (HS)/ICAP1_B (io), 15 PC4/MISO/ICCDATA (io), 16 PC5/MOSI/AIN14 (io), 17 PC6/SCK/ICCCLK (io), 18 PC7/~{SS}/AIN15 (io), 19 PA3 (HS) (io), 20 PA4 (HS) (io), 21 PA6 (HS) (io), 22 PA7 (HS) (io), 23 VPP/ICCSEL (in), 24 ~{RESET} (io), 25 VSS_2 (power), 26 OSC2 (out), 27 OSC1 (in), 28 VDD_2 (power), 29 PE0/TDO (io), 30 PE1/RDI (io), 31 PB0 (io), 32 PB3 (io)

## ST72324BK6BB
designator U?
8-Bit MCU with 32k ROM, 1024b RAM, 10-Bit ADC, Four Timers, SPI and SCI Interface, 32-Pin PDIP, Automotive; Note: Pins 1, 6, 7, 19, 31 and 32 are External Interrupt (EI) pins.; Published: 26-May-2004; LatestRevisionDate: 06-Jun-2005; LatestRevisionNote: Stylized 3D Model Added.; DatasheetVersion: rev1.1, Oct-2003; PackageVersion: rev1.7, Oct-2001; PackageReference: PSDIP32; Publisher: Altium Limited; PackageDescription: DIP, Plastic Shrink; 32 Leads; Row Spacing 10.16 mm; Pitch 1.78 mm; ComponentLink1Description: Manufacturer Link; ComponentLink1URL: http://www.st.com/; ComponentLink2Description: Datasheet; ComponentLink2URL: http://www.st.com/stonline/products/literature/ds/8336/st72324b.pdf
footprint PSDIP32 (DIP, Plastic Shrink; 32 Leads; Row Spacing 10.16 mm; Pitch 1.78 mm)
3D model PSDIP32 (DIP, Plastic Shrink; 32 Leads; Row Spacing 10.16 mm; Pitch 1.78 mm)
pins: 1 PB4 (HS) (io), 2 PD0/AIN0 (io), 3 PD1/AIN1 (io), 4 VAREF (power), 5 VSSA (power), 6 PF0/AIN8/MCO (io), 7 PF1 (HS)/BEEP (io), 8 PF4/AIN10/OCMP1_A (io), 9 PF6 (HS)/ICAP1_A (io), 10 PF7 (HS)/EXTCLK_A (io), 11 PC0/OCMP2_B/AIN12 (io), 12 PC1/OCMP1_B/AIN13 (io), 13 PC2 (HS)/ICAP2_B (io), 14 PC3 (HS)/ICAP1_B (io), 15 PC4/MISO/ICCDATA (io), 16 PC5/MOSI/AIN14 (io), 17 PC6/SCK/ICCCLK (io), 18 PC7/~{SS}/AIN15 (io), 19 PA3 (HS) (io), 20 PA4 (HS) (io), 21 PA6 (HS) (io), 22 PA7 (HS) (io), 23 VPP/ICCSEL (in), 24 ~{RESET} (io), 25 VSS_2 (power), 26 OSC2 (out), 27 OSC1 (in), 28 VDD_2 (power), 29 PE0/TDO (io), 30 PE1/RDI (io), 31 PB0 (io), 32 PB3 (io)

## ST72324BK6BC
designator U?
8-Bit MCU with 32k ROM, 1024b RAM, 10-Bit ADC, Four Timers, SPI and SCI Interface, 32-Pin PDIP, Automotive; Note: Pins 1, 6, 7, 19, 31 and 32 are External Interrupt (EI) pins.; Published: 26-May-2004; LatestRevisionDate: 06-Jun-2005; LatestRevisionNote: Stylized 3D Model Added.; DatasheetVersion: rev1.1, Oct-2003; PackageVersion: rev1.7, Oct-2001; PackageReference: PSDIP32; Publisher: Altium Limited; PackageDescription: DIP, Plastic Shrink; 32 Leads; Row Spacing 10.16 mm; Pitch 1.78 mm; ComponentLink1Description: Manufacturer Link; ComponentLink1URL: http://www.st.com/; ComponentLink2Description: Datasheet; ComponentLink2URL: http://www.st.com/stonline/products/literature/ds/8336/st72324b.pdf
footprint PSDIP32 (DIP, Plastic Shrink; 32 Leads; Row Spacing 10.16 mm; Pitch 1.78 mm)
3D model PSDIP32 (DIP, Plastic Shrink; 32 Leads; Row Spacing 10.16 mm; Pitch 1.78 mm)
pins: 1 PB4 (HS) (io), 2 PD0/AIN0 (io), 3 PD1/AIN1 (io), 4 VAREF (power), 5 VSSA (power), 6 PF0/AIN8/MCO (io), 7 PF1 (HS)/BEEP (io), 8 PF4/AIN10/OCMP1_A (io), 9 PF6 (HS)/ICAP1_A (io), 10 PF7 (HS)/EXTCLK_A (io), 11 PC0/OCMP2_B/AIN12 (io), 12 PC1/OCMP1_B/AIN13 (io), 13 PC2 (HS)/ICAP2_B (io), 14 PC3 (HS)/ICAP1_B (io), 15 PC4/MISO/ICCDATA (io), 16 PC5/MOSI/AIN14 (io), 17 PC6/SCK/ICCCLK (io), 18 PC7/~{SS}/AIN15 (io), 19 PA3 (HS) (io), 20 PA4 (HS) (io), 21 PA6 (HS) (io), 22 PA7 (HS) (io), 23 VPP/ICCSEL (in), 24 ~{RESET} (io), 25 VSS_2 (power), 26 OSC2 (out), 27 OSC1 (in), 28 VDD_2 (power), 29 PE0/TDO (io), 30 PE1/RDI (io), 31 PB0 (io), 32 PB3 (io)

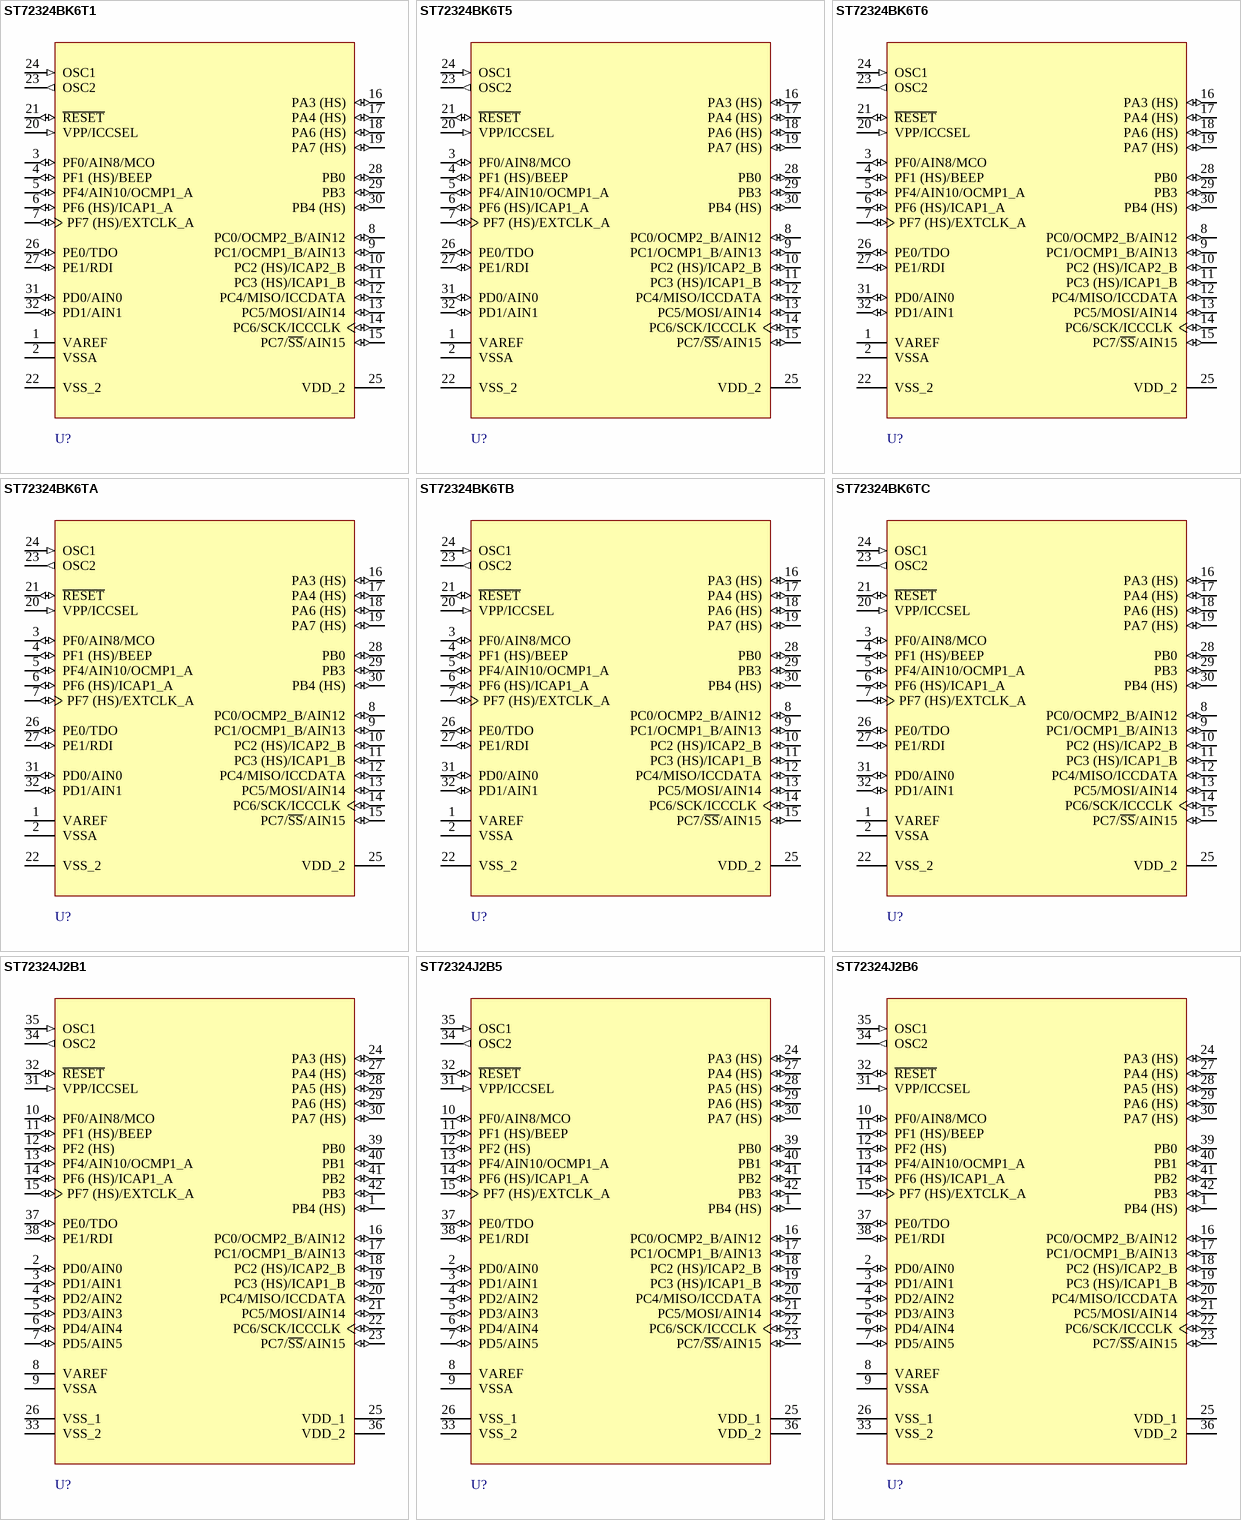
[diagram p135: symbols ST72324BK6T1 to ST72324J2B6]

## ST72324BK6T1
designator U?
8-Bit MCU with 32k ROM, 1024b RAM, 10-Bit ADC, Four Timers, SPI and SCI Interface, 32-Pin TQFP, Standard; Note: Pins 3, 4, 16 and 28-30 are External Interrupt (EI) pins.; Published: 26-May-2004; LatestRevisionDate: 13-Apr-2006; LatestRevisionNote: IPC-7351 Footprint Added.; DatasheetVersion: rev1.1, Oct-2003; PackageVersion: Oct-1997; PackageReference: TQFP32; Publisher: Altium Limited; PackageDescription: 32-Pin Thin Quad Flat Pack 0.8 mm Pitch; ComponentLink1Description: Manufacturer Link; ComponentLink1URL: http://www.st.com/; ComponentLink2Description: Datasheet; ComponentLink2URL: http://www.st.com/stonline/products/literature/ds/8336/st72324b.pdf
footprint TQFP32_N (Thin QFP, 32-Leads, Body 7x7mm, Pitch 0.8mm, IPC Medium Density)
footprint TQFP32_L (Thin QFP, 32-Leads, Body 7x7mm, Pitch 0.8mm, IPC High Density)
footprint TQFP32_M (Thin QFP, 32-Leads, Body 7x7mm, Pitch 0.8mm, IPC Low Density)
3D model ST72324B-TQFP32 (32-Pin Thin Quad Flat Pack 0.8 mm Pitch)
pins: 1 VAREF (power), 2 VSSA (power), 3 PF0/AIN8/MCO (io), 4 PF1 (HS)/BEEP (io), 5 PF4/AIN10/OCMP1_A (io), 6 PF6 (HS)/ICAP1_A (io), 7 PF7 (HS)/EXTCLK_A (io), 8 PC0/OCMP2_B/AIN12 (io), 9 PC1/OCMP1_B/AIN13 (io), 10 PC2 (HS)/ICAP2_B (io), 11 PC3 (HS)/ICAP1_B (io), 12 PC4/MISO/ICCDATA (io), 13 PC5/MOSI/AIN14 (io), 14 PC6/SCK/ICCCLK (io), 15 PC7/~{SS}/AIN15 (io), 16 PA3 (HS) (io), 17 PA4 (HS) (io), 18 PA6 (HS) (io), 19 PA7 (HS) (io), 20 VPP/ICCSEL (in), 21 ~{RESET} (io), 22 VSS_2 (power), 23 OSC2 (out), 24 OSC1 (in), 25 VDD_2 (power), 26 PE0/TDO (io), 27 PE1/RDI (io), 28 PB0 (io), 29 PB3 (io), 30 PB4 (HS) (io), 31 PD0/AIN0 (io), 32 PD1/AIN1 (io)

## ST72324BK6T5
designator U?
8-Bit MCU with 32k ROM, 1024b RAM, 10-Bit ADC, Four Timers, SPI and SCI Interface, 32-Pin TQFP, Standard; Note: Pins 3, 4, 16 and 28-30 are External Interrupt (EI) pins.; Published: 26-May-2004; LatestRevisionDate: 13-Apr-2006; LatestRevisionNote: IPC-7351 Footprint Added.; DatasheetVersion: rev1.1, Oct-2003; PackageVersion: Oct-1997; PackageReference: TQFP32; Publisher: Altium Limited; PackageDescription: 32-Pin Thin Quad Flat Pack 0.8 mm Pitch; ComponentLink1Description: Manufacturer Link; ComponentLink1URL: http://www.st.com/; ComponentLink2Description: Datasheet; ComponentLink2URL: http://www.st.com/stonline/products/literature/ds/8336/st72324b.pdf
footprint TQFP32_N (Thin QFP, 32-Leads, Body 7x7mm, Pitch 0.8mm, IPC Medium Density)
footprint TQFP32_L (Thin QFP, 32-Leads, Body 7x7mm, Pitch 0.8mm, IPC High Density)
footprint TQFP32_M (Thin QFP, 32-Leads, Body 7x7mm, Pitch 0.8mm, IPC Low Density)
3D model ST72324B-TQFP32 (32-Pin Thin Quad Flat Pack 0.8 mm Pitch)
pins: 1 VAREF (power), 2 VSSA (power), 3 PF0/AIN8/MCO (io), 4 PF1 (HS)/BEEP (io), 5 PF4/AIN10/OCMP1_A (io), 6 PF6 (HS)/ICAP1_A (io), 7 PF7 (HS)/EXTCLK_A (io), 8 PC0/OCMP2_B/AIN12 (io), 9 PC1/OCMP1_B/AIN13 (io), 10 PC2 (HS)/ICAP2_B (io), 11 PC3 (HS)/ICAP1_B (io), 12 PC4/MISO/ICCDATA (io), 13 PC5/MOSI/AIN14 (io), 14 PC6/SCK/ICCCLK (io), 15 PC7/~{SS}/AIN15 (io), 16 PA3 (HS) (io), 17 PA4 (HS) (io), 18 PA6 (HS) (io), 19 PA7 (HS) (io), 20 VPP/ICCSEL (in), 21 ~{RESET} (io), 22 VSS_2 (power), 23 OSC2 (out), 24 OSC1 (in), 25 VDD_2 (power), 26 PE0/TDO (io), 27 PE1/RDI (io), 28 PB0 (io), 29 PB3 (io), 30 PB4 (HS) (io), 31 PD0/AIN0 (io), 32 PD1/AIN1 (io)

## ST72324BK6T6
designator U?
8-Bit MCU with 32k ROM, 1024b RAM, 10-Bit ADC, Four Timers, SPI and SCI Interface, 32-Pin TQFP, Standard; Note: Pins 3, 4, 16 and 28-30 are External Interrupt (EI) pins.; Published: 26-May-2004; LatestRevisionDate: 13-Apr-2006; LatestRevisionNote: IPC-7351 Footprint Added.; DatasheetVersion: rev1.1, Oct-2003; PackageVersion: Oct-1997; PackageReference: TQFP32; Publisher: Altium Limited; PackageDescription: 32-Pin Thin Quad Flat Pack 0.8 mm Pitch; ComponentLink1Description: Manufacturer Link; ComponentLink1URL: http://www.st.com/; ComponentLink2Description: Datasheet; ComponentLink2URL: http://www.st.com/stonline/products/literature/ds/8336/st72324b.pdf
footprint TQFP32_N (Thin QFP, 32-Leads, Body 7x7mm, Pitch 0.8mm, IPC Medium Density)
footprint TQFP32_L (Thin QFP, 32-Leads, Body 7x7mm, Pitch 0.8mm, IPC High Density)
footprint TQFP32_M (Thin QFP, 32-Leads, Body 7x7mm, Pitch 0.8mm, IPC Low Density)
3D model ST72324B-TQFP32 (32-Pin Thin Quad Flat Pack 0.8 mm Pitch)
pins: 1 VAREF (power), 2 VSSA (power), 3 PF0/AIN8/MCO (io), 4 PF1 (HS)/BEEP (io), 5 PF4/AIN10/OCMP1_A (io), 6 PF6 (HS)/ICAP1_A (io), 7 PF7 (HS)/EXTCLK_A (io), 8 PC0/OCMP2_B/AIN12 (io), 9 PC1/OCMP1_B/AIN13 (io), 10 PC2 (HS)/ICAP2_B (io), 11 PC3 (HS)/ICAP1_B (io), 12 PC4/MISO/ICCDATA (io), 13 PC5/MOSI/AIN14 (io), 14 PC6/SCK/ICCCLK (io), 15 PC7/~{SS}/AIN15 (io), 16 PA3 (HS) (io), 17 PA4 (HS) (io), 18 PA6 (HS) (io), 19 PA7 (HS) (io), 20 VPP/ICCSEL (in), 21 ~{RESET} (io), 22 VSS_2 (power), 23 OSC2 (out), 24 OSC1 (in), 25 VDD_2 (power), 26 PE0/TDO (io), 27 PE1/RDI (io), 28 PB0 (io), 29 PB3 (io), 30 PB4 (HS) (io), 31 PD0/AIN0 (io), 32 PD1/AIN1 (io)

## ST72324BK6TA
designator U?
8-Bit MCU with 32k ROM, 1024b RAM, 10-Bit ADC, Four Timers, SPI and SCI Interface, 32-Pin TQFP, Automotive; Note: Pins 3, 4, 16 and 28-30 are External Interrupt (EI) pins.; Published: 26-May-2004; LatestRevisionDate: 13-Apr-2006; LatestRevisionNote: IPC-7351 Footprint Added.; DatasheetVersion: rev1.1, Oct-2003; PackageVersion: Oct-1997; PackageReference: TQFP32; Publisher: Altium Limited; PackageDescription: 32-Pin Thin Quad Flat Pack 0.8 mm Pitch; ComponentLink1Description: Manufacturer Link; ComponentLink1URL: http://www.st.com/; ComponentLink2Description: Datasheet; ComponentLink2URL: http://www.st.com/stonline/products/literature/ds/8336/st72324b.pdf
footprint TQFP32_N (Thin QFP, 32-Leads, Body 7x7mm, Pitch 0.8mm, IPC Medium Density)
footprint TQFP32_L (Thin QFP, 32-Leads, Body 7x7mm, Pitch 0.8mm, IPC High Density)
footprint TQFP32_M (Thin QFP, 32-Leads, Body 7x7mm, Pitch 0.8mm, IPC Low Density)
3D model ST72324B-TQFP32 (32-Pin Thin Quad Flat Pack 0.8 mm Pitch)
pins: 1 VAREF (power), 2 VSSA (power), 3 PF0/AIN8/MCO (io), 4 PF1 (HS)/BEEP (io), 5 PF4/AIN10/OCMP1_A (io), 6 PF6 (HS)/ICAP1_A (io), 7 PF7 (HS)/EXTCLK_A (io), 8 PC0/OCMP2_B/AIN12 (io), 9 PC1/OCMP1_B/AIN13 (io), 10 PC2 (HS)/ICAP2_B (io), 11 PC3 (HS)/ICAP1_B (io), 12 PC4/MISO/ICCDATA (io), 13 PC5/MOSI/AIN14 (io), 14 PC6/SCK/ICCCLK (io), 15 PC7/~{SS}/AIN15 (io), 16 PA3 (HS) (io), 17 PA4 (HS) (io), 18 PA6 (HS) (io), 19 PA7 (HS) (io), 20 VPP/ICCSEL (in), 21 ~{RESET} (io), 22 VSS_2 (power), 23 OSC2 (out), 24 OSC1 (in), 25 VDD_2 (power), 26 PE0/TDO (io), 27 PE1/RDI (io), 28 PB0 (io), 29 PB3 (io), 30 PB4 (HS) (io), 31 PD0/AIN0 (io), 32 PD1/AIN1 (io)

## ST72324BK6TB
designator U?
8-Bit MCU with 32k ROM, 1024b RAM, 10-Bit ADC, Four Timers, SPI and SCI Interface, 32-Pin TQFP, Automotive; Note: Pins 3, 4, 16 and 28-30 are External Interrupt (EI) pins.; Published: 26-May-2004; LatestRevisionDate: 13-Apr-2006; LatestRevisionNote: IPC-7351 Footprint Added.; DatasheetVersion: rev1.1, Oct-2003; PackageVersion: Oct-1997; PackageReference: TQFP32; Publisher: Altium Limited; PackageDescription: 32-Pin Thin Quad Flat Pack 0.8 mm Pitch; ComponentLink1Description: Manufacturer Link; ComponentLink1URL: http://www.st.com/; ComponentLink2Description: Datasheet; ComponentLink2URL: http://www.st.com/stonline/products/literature/ds/8336/st72324b.pdf
footprint TQFP32_N (Thin QFP, 32-Leads, Body 7x7mm, Pitch 0.8mm, IPC Medium Density)
footprint TQFP32_L (Thin QFP, 32-Leads, Body 7x7mm, Pitch 0.8mm, IPC High Density)
footprint TQFP32_M (Thin QFP, 32-Leads, Body 7x7mm, Pitch 0.8mm, IPC Low Density)
3D model ST72324B-TQFP32 (32-Pin Thin Quad Flat Pack 0.8 mm Pitch)
pins: 1 VAREF (power), 2 VSSA (power), 3 PF0/AIN8/MCO (io), 4 PF1 (HS)/BEEP (io), 5 PF4/AIN10/OCMP1_A (io), 6 PF6 (HS)/ICAP1_A (io), 7 PF7 (HS)/EXTCLK_A (io), 8 PC0/OCMP2_B/AIN12 (io), 9 PC1/OCMP1_B/AIN13 (io), 10 PC2 (HS)/ICAP2_B (io), 11 PC3 (HS)/ICAP1_B (io), 12 PC4/MISO/ICCDATA (io), 13 PC5/MOSI/AIN14 (io), 14 PC6/SCK/ICCCLK (io), 15 PC7/~{SS}/AIN15 (io), 16 PA3 (HS) (io), 17 PA4 (HS) (io), 18 PA6 (HS) (io), 19 PA7 (HS) (io), 20 VPP/ICCSEL (in), 21 ~{RESET} (io), 22 VSS_2 (power), 23 OSC2 (out), 24 OSC1 (in), 25 VDD_2 (power), 26 PE0/TDO (io), 27 PE1/RDI (io), 28 PB0 (io), 29 PB3 (io), 30 PB4 (HS) (io), 31 PD0/AIN0 (io), 32 PD1/AIN1 (io)

## ST72324BK6TC
designator U?
8-Bit MCU with 32k ROM, 1024b RAM, 10-Bit ADC, Four Timers, SPI and SCI Interface, 32-Pin TQFP, Automotive; Note: Pins 3, 4, 16 and 28-30 are External Interrupt (EI) pins.; Published: 26-May-2004; LatestRevisionDate: 13-Apr-2006; LatestRevisionNote: IPC-7351 Footprint Added.; DatasheetVersion: rev1.1, Oct-2003; PackageVersion: Oct-1997; PackageReference: TQFP32; Publisher: Altium Limited; PackageDescription: 32-Pin Thin Quad Flat Pack 0.8 mm Pitch; ComponentLink1Description: Manufacturer Link; ComponentLink1URL: http://www.st.com/; ComponentLink2Description: Datasheet; ComponentLink2URL: http://www.st.com/stonline/products/literature/ds/8336/st72324b.pdf
footprint TQFP32_N (Thin QFP, 32-Leads, Body 7x7mm, Pitch 0.8mm, IPC Medium Density)
footprint TQFP32_L (Thin QFP, 32-Leads, Body 7x7mm, Pitch 0.8mm, IPC High Density)
footprint TQFP32_M (Thin QFP, 32-Leads, Body 7x7mm, Pitch 0.8mm, IPC Low Density)
3D model ST72324B-TQFP32 (32-Pin Thin Quad Flat Pack 0.8 mm Pitch)
pins: 1 VAREF (power), 2 VSSA (power), 3 PF0/AIN8/MCO (io), 4 PF1 (HS)/BEEP (io), 5 PF4/AIN10/OCMP1_A (io), 6 PF6 (HS)/ICAP1_A (io), 7 PF7 (HS)/EXTCLK_A (io), 8 PC0/OCMP2_B/AIN12 (io), 9 PC1/OCMP1_B/AIN13 (io), 10 PC2 (HS)/ICAP2_B (io), 11 PC3 (HS)/ICAP1_B (io), 12 PC4/MISO/ICCDATA (io), 13 PC5/MOSI/AIN14 (io), 14 PC6/SCK/ICCCLK (io), 15 PC7/~{SS}/AIN15 (io), 16 PA3 (HS) (io), 17 PA4 (HS) (io), 18 PA6 (HS) (io), 19 PA7 (HS) (io), 20 VPP/ICCSEL (in), 21 ~{RESET} (io), 22 VSS_2 (power), 23 OSC2 (out), 24 OSC1 (in), 25 VDD_2 (power), 26 PE0/TDO (io), 27 PE1/RDI (io), 28 PB0 (io), 29 PB3 (io), 30 PB4 (HS) (io), 31 PD0/AIN0 (io), 32 PD1/AIN1 (io)

## ST72324J2B1
designator U?
8-Bit 8k ROM MCU with Nested Interrupts, 384b RAM, 10-Bit ADC, Four Timers, SPI and SCI Interfaces, 42-Pin PDIP, Standard; Note: Pins 1, 10-12, 24 and 39-42 are External Interrupt (EI) pins.; Published: 26-May-2004; LatestRevisionDate: 06-Jun-2005; LatestRevisionNote: Stylized 3D Model Added.; DatasheetVersion: rev1.9, Aug-2003; PackageVersion: Oct-2003; PackageReference: PSDIP42; Publisher: Altium Limited; PackageDescription: DIP, Plastic Shrink; 42 Leads; Row Spacing 15.24 mm; Pitch 1.78 mm; ComponentLink1Description: Manufacturer Link; ComponentLink1URL: http://www.st.com/; ComponentLink2Description: Datasheet; ComponentLink2URL: http://www.st.com/stonline/products/literature/ds/8336/st72324.pdf
footprint PSDIP42 (DIP, Plastic Shrink; 42 Leads; Row Spacing 15.24 mm; Pitch 1.78 mm)
3D model PSDIP42 (DIP, Plastic Shrink; 42 Leads; Row Spacing 15.24 mm; Pitch 1.78 mm)
pins: 1 PB4 (HS) (io), 2 PD0/AIN0 (io), 3 PD1/AIN1 (io), 4 PD2/AIN2 (io), 5 PD3/AIN3 (io), 6 PD4/AIN4 (io), 7 PD5/AIN5 (io), 8 VAREF (power), 9 VSSA (power), 10 PF0/AIN8/MCO (io), 11 PF1 (HS)/BEEP (io), 12 PF2 (HS) (io), 13 PF4/AIN10/OCMP1_A (io), 14 PF6 (HS)/ICAP1_A (io), 15 PF7 (HS)/EXTCLK_A (io), 16 PC0/OCMP2_B/AIN12 (io), 17 PC1/OCMP1_B/AIN13 (io), 18 PC2 (HS)/ICAP2_B (io), 19 PC3 (HS)/ICAP1_B (io), 20 PC4/MISO/ICCDATA (io), 21 PC5/MOSI/AIN14 (io), 22 PC6/SCK/ICCCLK (io), 23 PC7/~{SS}/AIN15 (io), 24 PA3 (HS) (io), 25 VDD_1 (power), 26 VSS_1 (power), 27 PA4 (HS) (io), 28 PA5 (HS) (io), 29 PA6 (HS) (io), 30 PA7 (HS) (io), 31 VPP/ICCSEL (in), 32 ~{RESET} (io), 33 VSS_2 (power), 34 OSC2 (out), 35 OSC1 (in), 36 VDD_2 (power), 37 PE0/TDO (io), 38 PE1/RDI (io), 39 PB0 (io), 40 PB1 (io), 41 PB2 (io), 42 PB3 (io)

## ST72324J2B5
designator U?
8-Bit 8k ROM MCU with Nested Interrupts, 384b RAM, 10-Bit ADC, Four Timers, SPI and SCI Interfaces, 42-Pin PDIP, Standard; Note: Pins 1, 10-12, 24 and 39-42 are External Interrupt (EI) pins.; Published: 26-May-2004; LatestRevisionDate: 06-Jun-2005; LatestRevisionNote: Stylized 3D Model Added.; DatasheetVersion: rev1.9, Aug-2003; PackageVersion: Oct-2003; PackageReference: PSDIP42; Publisher: Altium Limited; PackageDescription: DIP, Plastic Shrink; 42 Leads; Row Spacing 15.24 mm; Pitch 1.78 mm; ComponentLink1Description: Manufacturer Link; ComponentLink1URL: http://www.st.com/; ComponentLink2Description: Datasheet; ComponentLink2URL: http://www.st.com/stonline/products/literature/ds/8336/st72324.pdf
footprint PSDIP42 (DIP, Plastic Shrink; 42 Leads; Row Spacing 15.24 mm; Pitch 1.78 mm)
3D model PSDIP42 (DIP, Plastic Shrink; 42 Leads; Row Spacing 15.24 mm; Pitch 1.78 mm)
pins: 1 PB4 (HS) (io), 2 PD0/AIN0 (io), 3 PD1/AIN1 (io), 4 PD2/AIN2 (io), 5 PD3/AIN3 (io), 6 PD4/AIN4 (io), 7 PD5/AIN5 (io), 8 VAREF (power), 9 VSSA (power), 10 PF0/AIN8/MCO (io), 11 PF1 (HS)/BEEP (io), 12 PF2 (HS) (io), 13 PF4/AIN10/OCMP1_A (io), 14 PF6 (HS)/ICAP1_A (io), 15 PF7 (HS)/EXTCLK_A (io), 16 PC0/OCMP2_B/AIN12 (io), 17 PC1/OCMP1_B/AIN13 (io), 18 PC2 (HS)/ICAP2_B (io), 19 PC3 (HS)/ICAP1_B (io), 20 PC4/MISO/ICCDATA (io), 21 PC5/MOSI/AIN14 (io), 22 PC6/SCK/ICCCLK (io), 23 PC7/~{SS}/AIN15 (io), 24 PA3 (HS) (io), 25 VDD_1 (power), 26 VSS_1 (power), 27 PA4 (HS) (io), 28 PA5 (HS) (io), 29 PA6 (HS) (io), 30 PA7 (HS) (io), 31 VPP/ICCSEL (in), 32 ~{RESET} (io), 33 VSS_2 (power), 34 OSC2 (out), 35 OSC1 (in), 36 VDD_2 (power), 37 PE0/TDO (io), 38 PE1/RDI (io), 39 PB0 (io), 40 PB1 (io), 41 PB2 (io), 42 PB3 (io)

## ST72324J2B6
designator U?
8-Bit 8k ROM MCU with Nested Interrupts, 384b RAM, 10-Bit ADC, Four Timers, SPI and SCI Interfaces, 42-Pin PDIP, Standard; Note: Pins 1, 10-12, 24 and 39-42 are External Interrupt (EI) pins.; Published: 26-May-2004; LatestRevisionDate: 06-Jun-2005; LatestRevisionNote: Stylized 3D Model Added.; DatasheetVersion: rev1.9, Aug-2003; PackageVersion: Oct-2003; PackageReference: PSDIP42; Publisher: Altium Limited; PackageDescription: DIP, Plastic Shrink; 42 Leads; Row Spacing 15.24 mm; Pitch 1.78 mm; ComponentLink1Description: Manufacturer Link; ComponentLink1URL: http://www.st.com/; ComponentLink2Description: Datasheet; ComponentLink2URL: http://www.st.com/stonline/products/literature/ds/8336/st72324.pdf
footprint PSDIP42 (DIP, Plastic Shrink; 42 Leads; Row Spacing 15.24 mm; Pitch 1.78 mm)
3D model PSDIP42 (DIP, Plastic Shrink; 42 Leads; Row Spacing 15.24 mm; Pitch 1.78 mm)
pins: 1 PB4 (HS) (io), 2 PD0/AIN0 (io), 3 PD1/AIN1 (io), 4 PD2/AIN2 (io), 5 PD3/AIN3 (io), 6 PD4/AIN4 (io), 7 PD5/AIN5 (io), 8 VAREF (power), 9 VSSA (power), 10 PF0/AIN8/MCO (io), 11 PF1 (HS)/BEEP (io), 12 PF2 (HS) (io), 13 PF4/AIN10/OCMP1_A (io), 14 PF6 (HS)/ICAP1_A (io), 15 PF7 (HS)/EXTCLK_A (io), 16 PC0/OCMP2_B/AIN12 (io), 17 PC1/OCMP1_B/AIN13 (io), 18 PC2 (HS)/ICAP2_B (io), 19 PC3 (HS)/ICAP1_B (io), 20 PC4/MISO/ICCDATA (io), 21 PC5/MOSI/AIN14 (io), 22 PC6/SCK/ICCCLK (io), 23 PC7/~{SS}/AIN15 (io), 24 PA3 (HS) (io), 25 VDD_1 (power), 26 VSS_1 (power), 27 PA4 (HS) (io), 28 PA5 (HS) (io), 29 PA6 (HS) (io), 30 PA7 (HS) (io), 31 VPP/ICCSEL (in), 32 ~{RESET} (io), 33 VSS_2 (power), 34 OSC2 (out), 35 OSC1 (in), 36 VDD_2 (power), 37 PE0/TDO (io), 38 PE1/RDI (io), 39 PB0 (io), 40 PB1 (io), 41 PB2 (io), 42 PB3 (io)

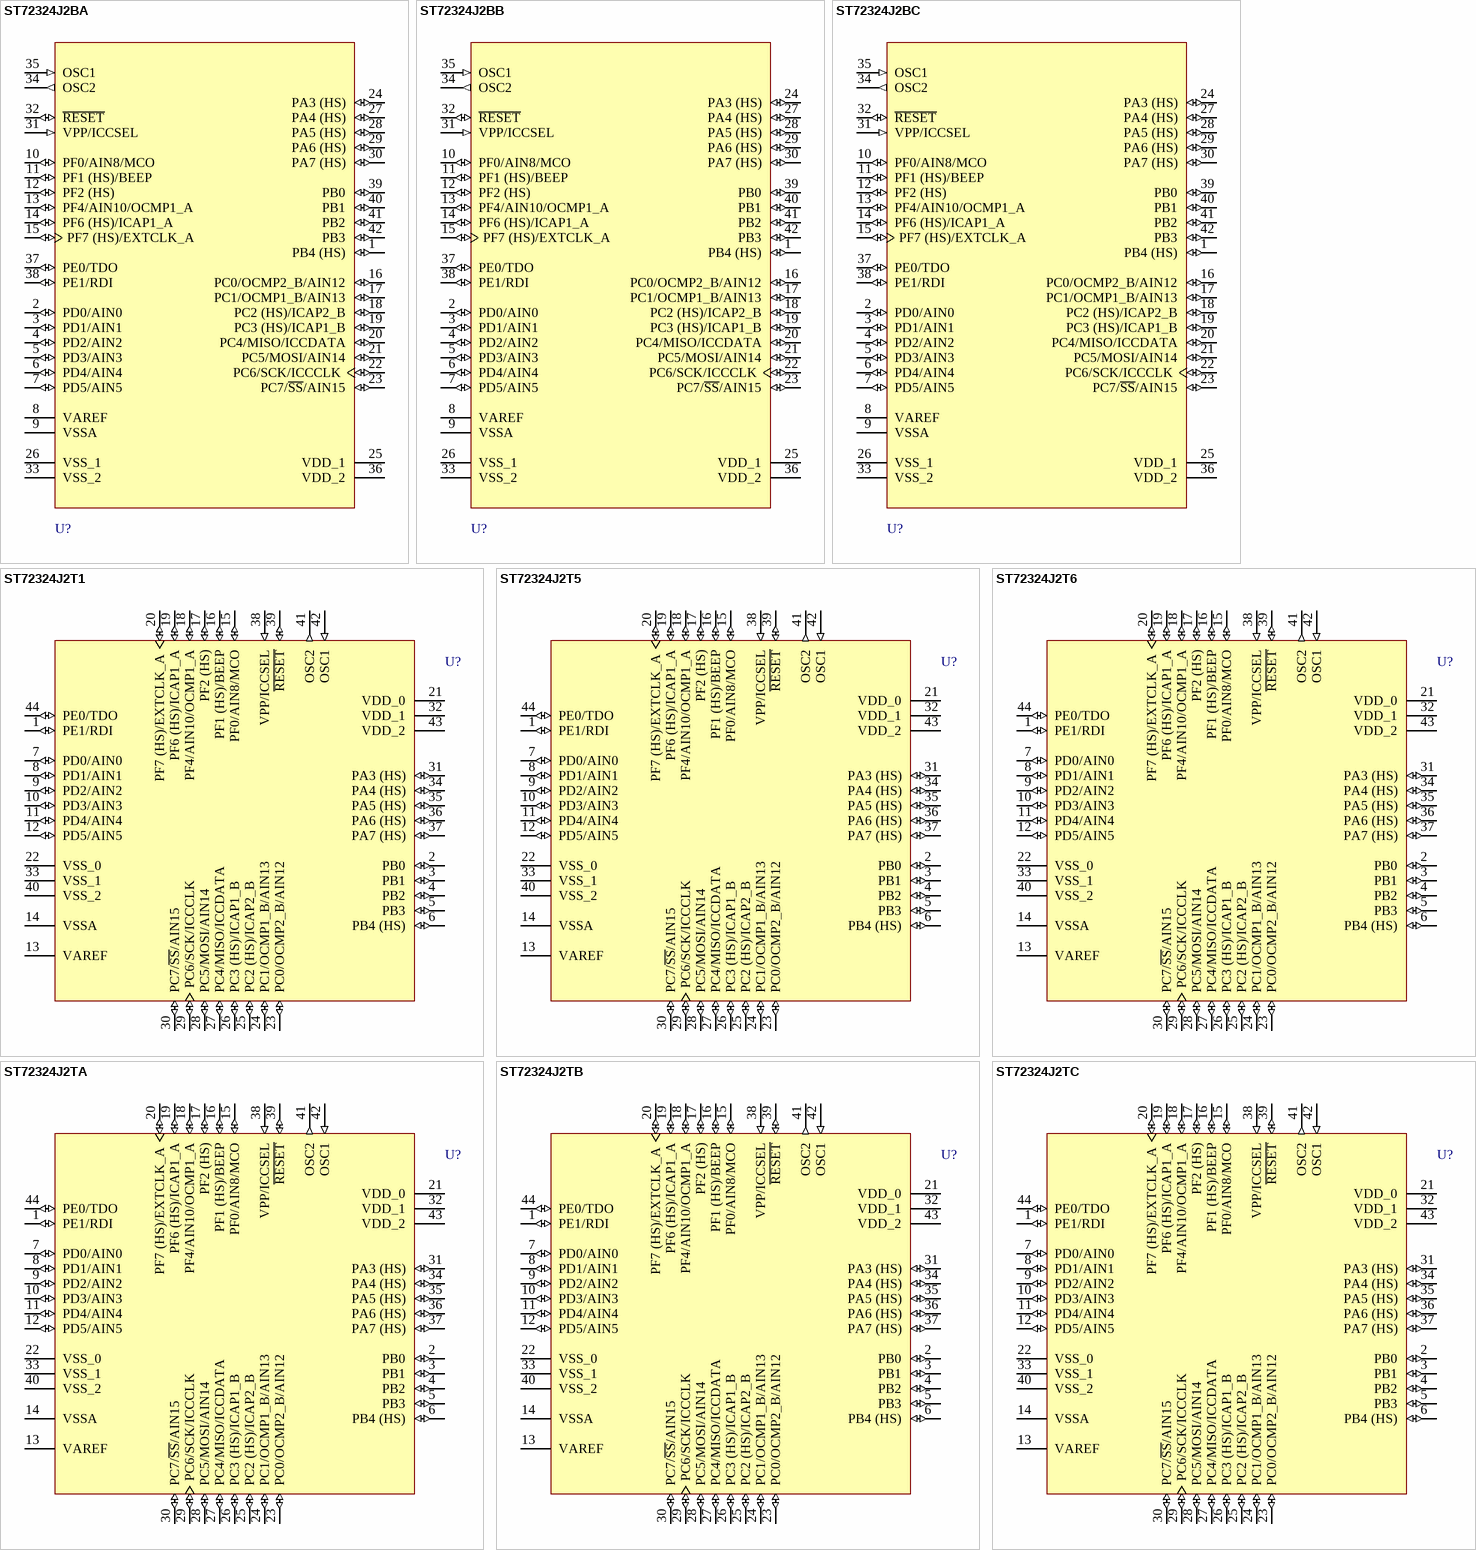
[diagram p136: symbols ST72324J2BA to ST72324J2TC]

## ST72324J2BA
designator U?
8-Bit 8k ROM MCU with Nested Interrupts, 384b RAM, 10-Bit ADC, Four Timers, SPI and SCI Interfaces, 42-Pin PDIP, Automotive; Note: Pins 1, 10-12, 24 and 39-42 are External Interrupt (EI) pins.; Published: 26-May-2004; LatestRevisionDate: 06-Jun-2005; LatestRevisionNote: Stylized 3D Model Added.; DatasheetVersion: rev1.9, Aug-2003; PackageVersion: Oct-2003; PackageReference: PSDIP42; Publisher: Altium Limited; PackageDescription: DIP, Plastic Shrink; 42 Leads; Row Spacing 15.24 mm; Pitch 1.78 mm; ComponentLink1Description: Manufacturer Link; ComponentLink1URL: http://www.st.com/; ComponentLink2Description: Datasheet; ComponentLink2URL: http://www.st.com/stonline/products/literature/ds/8336/st72324.pdf
footprint PSDIP42 (DIP, Plastic Shrink; 42 Leads; Row Spacing 15.24 mm; Pitch 1.78 mm)
3D model PSDIP42 (DIP, Plastic Shrink; 42 Leads; Row Spacing 15.24 mm; Pitch 1.78 mm)
pins: 1 PB4 (HS) (io), 2 PD0/AIN0 (io), 3 PD1/AIN1 (io), 4 PD2/AIN2 (io), 5 PD3/AIN3 (io), 6 PD4/AIN4 (io), 7 PD5/AIN5 (io), 8 VAREF (power), 9 VSSA (power), 10 PF0/AIN8/MCO (io), 11 PF1 (HS)/BEEP (io), 12 PF2 (HS) (io), 13 PF4/AIN10/OCMP1_A (io), 14 PF6 (HS)/ICAP1_A (io), 15 PF7 (HS)/EXTCLK_A (io), 16 PC0/OCMP2_B/AIN12 (io), 17 PC1/OCMP1_B/AIN13 (io), 18 PC2 (HS)/ICAP2_B (io), 19 PC3 (HS)/ICAP1_B (io), 20 PC4/MISO/ICCDATA (io), 21 PC5/MOSI/AIN14 (io), 22 PC6/SCK/ICCCLK (io), 23 PC7/~{SS}/AIN15 (io), 24 PA3 (HS) (io), 25 VDD_1 (power), 26 VSS_1 (power), 27 PA4 (HS) (io), 28 PA5 (HS) (io), 29 PA6 (HS) (io), 30 PA7 (HS) (io), 31 VPP/ICCSEL (in), 32 ~{RESET} (io), 33 VSS_2 (power), 34 OSC2 (out), 35 OSC1 (in), 36 VDD_2 (power), 37 PE0/TDO (io), 38 PE1/RDI (io), 39 PB0 (io), 40 PB1 (io), 41 PB2 (io), 42 PB3 (io)

## ST72324J2BB
designator U?
8-Bit 8k ROM MCU with Nested Interrupts, 384b RAM, 10-Bit ADC, Four Timers, SPI and SCI Interfaces, 42-Pin PDIP, Automotive; Note: Pins 1, 10-12, 24 and 39-42 are External Interrupt (EI) pins.; Published: 26-May-2004; LatestRevisionDate: 06-Jun-2005; LatestRevisionNote: Stylized 3D Model Added.; DatasheetVersion: rev1.9, Aug-2003; PackageVersion: Oct-2003; PackageReference: PSDIP42; Publisher: Altium Limited; PackageDescription: DIP, Plastic Shrink; 42 Leads; Row Spacing 15.24 mm; Pitch 1.78 mm; ComponentLink1Description: Manufacturer Link; ComponentLink1URL: http://www.st.com/; ComponentLink2Description: Datasheet; ComponentLink2URL: http://www.st.com/stonline/products/literature/ds/8336/st72324.pdf
footprint PSDIP42 (DIP, Plastic Shrink; 42 Leads; Row Spacing 15.24 mm; Pitch 1.78 mm)
3D model PSDIP42 (DIP, Plastic Shrink; 42 Leads; Row Spacing 15.24 mm; Pitch 1.78 mm)
pins: 1 PB4 (HS) (io), 2 PD0/AIN0 (io), 3 PD1/AIN1 (io), 4 PD2/AIN2 (io), 5 PD3/AIN3 (io), 6 PD4/AIN4 (io), 7 PD5/AIN5 (io), 8 VAREF (power), 9 VSSA (power), 10 PF0/AIN8/MCO (io), 11 PF1 (HS)/BEEP (io), 12 PF2 (HS) (io), 13 PF4/AIN10/OCMP1_A (io), 14 PF6 (HS)/ICAP1_A (io), 15 PF7 (HS)/EXTCLK_A (io), 16 PC0/OCMP2_B/AIN12 (io), 17 PC1/OCMP1_B/AIN13 (io), 18 PC2 (HS)/ICAP2_B (io), 19 PC3 (HS)/ICAP1_B (io), 20 PC4/MISO/ICCDATA (io), 21 PC5/MOSI/AIN14 (io), 22 PC6/SCK/ICCCLK (io), 23 PC7/~{SS}/AIN15 (io), 24 PA3 (HS) (io), 25 VDD_1 (power), 26 VSS_1 (power), 27 PA4 (HS) (io), 28 PA5 (HS) (io), 29 PA6 (HS) (io), 30 PA7 (HS) (io), 31 VPP/ICCSEL (in), 32 ~{RESET} (io), 33 VSS_2 (power), 34 OSC2 (out), 35 OSC1 (in), 36 VDD_2 (power), 37 PE0/TDO (io), 38 PE1/RDI (io), 39 PB0 (io), 40 PB1 (io), 41 PB2 (io), 42 PB3 (io)

## ST72324J2BC
designator U?
8-Bit 8k ROM MCU with Nested Interrupts, 384b RAM, 10-Bit ADC, Four Timers, SPI and SCI Interfaces, 42-Pin PDIP, Automotive; Note: Pins 1, 10-12, 24 and 39-42 are External Interrupt (EI) pins.; Published: 26-May-2004; LatestRevisionDate: 06-Jun-2005; LatestRevisionNote: Stylized 3D Model Added.; DatasheetVersion: rev1.9, Aug-2003; PackageVersion: Oct-2003; PackageReference: PSDIP42; Publisher: Altium Limited; PackageDescription: DIP, Plastic Shrink; 42 Leads; Row Spacing 15.24 mm; Pitch 1.78 mm; ComponentLink1Description: Manufacturer Link; ComponentLink1URL: http://www.st.com/; ComponentLink2Description: Datasheet; ComponentLink2URL: http://www.st.com/stonline/products/literature/ds/8336/st72324.pdf
footprint PSDIP42 (DIP, Plastic Shrink; 42 Leads; Row Spacing 15.24 mm; Pitch 1.78 mm)
3D model PSDIP42 (DIP, Plastic Shrink; 42 Leads; Row Spacing 15.24 mm; Pitch 1.78 mm)
pins: 1 PB4 (HS) (io), 2 PD0/AIN0 (io), 3 PD1/AIN1 (io), 4 PD2/AIN2 (io), 5 PD3/AIN3 (io), 6 PD4/AIN4 (io), 7 PD5/AIN5 (io), 8 VAREF (power), 9 VSSA (power), 10 PF0/AIN8/MCO (io), 11 PF1 (HS)/BEEP (io), 12 PF2 (HS) (io), 13 PF4/AIN10/OCMP1_A (io), 14 PF6 (HS)/ICAP1_A (io), 15 PF7 (HS)/EXTCLK_A (io), 16 PC0/OCMP2_B/AIN12 (io), 17 PC1/OCMP1_B/AIN13 (io), 18 PC2 (HS)/ICAP2_B (io), 19 PC3 (HS)/ICAP1_B (io), 20 PC4/MISO/ICCDATA (io), 21 PC5/MOSI/AIN14 (io), 22 PC6/SCK/ICCCLK (io), 23 PC7/~{SS}/AIN15 (io), 24 PA3 (HS) (io), 25 VDD_1 (power), 26 VSS_1 (power), 27 PA4 (HS) (io), 28 PA5 (HS) (io), 29 PA6 (HS) (io), 30 PA7 (HS) (io), 31 VPP/ICCSEL (in), 32 ~{RESET} (io), 33 VSS_2 (power), 34 OSC2 (out), 35 OSC1 (in), 36 VDD_2 (power), 37 PE0/TDO (io), 38 PE1/RDI (io), 39 PB0 (io), 40 PB1 (io), 41 PB2 (io), 42 PB3 (io)

## ST72324J2T1
designator U?
8-Bit 8k ROM MCU with Nested Interrupts, 384b RAM, 10-Bit ADC, Four Timers, SPI and SCI Interfaces, 44-Pin TQFP, Standard; Note: Pins 2-6, 15-17 and 31 are External Interrupt (EI) pins.; Published: 26-May-2004; LatestRevisionDate: 13-Apr-2006; LatestRevisionNote: IPC-7351 Footprint Added.; DatasheetVersion: rev1.9, Aug-2003; PackageVersion: Oct-2003; PackageReference: TQFP44; Publisher: Altium Limited; PackageDescription: 44-Pin Thin Plastic Quad Flat Pack 0.8 mm Pitch; ComponentLink1Description: Manufacturer Link; ComponentLink1URL: http://www.st.com/; ComponentLink2Description: Datasheet; ComponentLink2URL: http://www.st.com/stonline/products/literature/ds/8336/st72324.pdf
footprint TQFP44_N (Thin QFP, 44-Leads, Body 10x10mm, Pitch 0.8mm, IPC Medium Density)
footprint TQFP44_L (Thin QFP, 44-Leads, Body 10x10mm, Pitch 0.8mm, IPC High Density)
footprint TQFP44_M (Thin QFP, 44-Leads, Body 10x10mm, Pitch 0.8mm, IPC Low Density)
3D model ST72324-TQFP44 (44-Pin Thin Plastic Quad Flat Pack 0.8 mm Pitch)
pins: 1 PE1/RDI (io), 2 PB0 (io), 3 PB1 (io), 4 PB2 (io), 5 PB3 (io), 6 PB4 (HS) (io), 7 PD0/AIN0 (io), 8 PD1/AIN1 (io), 9 PD2/AIN2 (io), 10 PD3/AIN3 (io), 11 PD4/AIN4 (io), 12 PD5/AIN5 (io), 13 VAREF (power), 14 VSSA (power), 15 PF0/AIN8/MCO (io), 16 PF1 (HS)/BEEP (io), 17 PF2 (HS) (io), 18 PF4/AIN10/OCMP1_A (io), 19 PF6 (HS)/ICAP1_A (io), 20 PF7 (HS)/EXTCLK_A (io), 21 VDD_0 (power), 22 VSS_0 (power), 23 PC0/OCMP2_B/AIN12 (io), 24 PC1/OCMP1_B/AIN13 (io), 25 PC2 (HS)/ICAP2_B (io), 26 PC3 (HS)/ICAP1_B (io), 27 PC4/MISO/ICCDATA (io), 28 PC5/MOSI/AIN14 (io), 29 PC6/SCK/ICCCLK (io), 30 PC7/~{SS}/AIN15 (io), 31 PA3 (HS) (io), 32 VDD_1 (power), 33 VSS_1 (power), 34 PA4 (HS) (io), 35 PA5 (HS) (io), 36 PA6 (HS) (io), 37 PA7 (HS) (io), 38 VPP/ICCSEL (in), 39 ~{RESET} (io), 40 VSS_2 (power), 41 OSC2 (out), 42 OSC1 (in), 43 VDD_2 (power), 44 PE0/TDO (io)

## ST72324J2T5
designator U?
8-Bit 8k ROM MCU with Nested Interrupts, 384b RAM, 10-Bit ADC, Four Timers, SPI and SCI Interfaces, 44-Pin TQFP, Standard; Note: Pins 2-6, 15-17 and 31 are External Interrupt (EI) pins.; Published: 26-May-2004; LatestRevisionDate: 13-Apr-2006; LatestRevisionNote: IPC-7351 Footprint Added.; DatasheetVersion: rev1.9, Aug-2003; PackageVersion: Oct-2003; PackageReference: TQFP44; Publisher: Altium Limited; PackageDescription: 44-Pin Thin Plastic Quad Flat Pack 0.8 mm Pitch; ComponentLink1Description: Manufacturer Link; ComponentLink1URL: http://www.st.com/; ComponentLink2Description: Datasheet; ComponentLink2URL: http://www.st.com/stonline/products/literature/ds/8336/st72324.pdf
footprint TQFP44_N (Thin QFP, 44-Leads, Body 10x10mm, Pitch 0.8mm, IPC Medium Density)
footprint TQFP44_L (Thin QFP, 44-Leads, Body 10x10mm, Pitch 0.8mm, IPC High Density)
footprint TQFP44_M (Thin QFP, 44-Leads, Body 10x10mm, Pitch 0.8mm, IPC Low Density)
3D model ST72324-TQFP44 (44-Pin Thin Plastic Quad Flat Pack 0.8 mm Pitch)
pins: 1 PE1/RDI (io), 2 PB0 (io), 3 PB1 (io), 4 PB2 (io), 5 PB3 (io), 6 PB4 (HS) (io), 7 PD0/AIN0 (io), 8 PD1/AIN1 (io), 9 PD2/AIN2 (io), 10 PD3/AIN3 (io), 11 PD4/AIN4 (io), 12 PD5/AIN5 (io), 13 VAREF (power), 14 VSSA (power), 15 PF0/AIN8/MCO (io), 16 PF1 (HS)/BEEP (io), 17 PF2 (HS) (io), 18 PF4/AIN10/OCMP1_A (io), 19 PF6 (HS)/ICAP1_A (io), 20 PF7 (HS)/EXTCLK_A (io), 21 VDD_0 (power), 22 VSS_0 (power), 23 PC0/OCMP2_B/AIN12 (io), 24 PC1/OCMP1_B/AIN13 (io), 25 PC2 (HS)/ICAP2_B (io), 26 PC3 (HS)/ICAP1_B (io), 27 PC4/MISO/ICCDATA (io), 28 PC5/MOSI/AIN14 (io), 29 PC6/SCK/ICCCLK (io), 30 PC7/~{SS}/AIN15 (io), 31 PA3 (HS) (io), 32 VDD_1 (power), 33 VSS_1 (power), 34 PA4 (HS) (io), 35 PA5 (HS) (io), 36 PA6 (HS) (io), 37 PA7 (HS) (io), 38 VPP/ICCSEL (in), 39 ~{RESET} (io), 40 VSS_2 (power), 41 OSC2 (out), 42 OSC1 (in), 43 VDD_2 (power), 44 PE0/TDO (io)